# EAGLE library part 2MM-DUAL-14-HEADER (library DAC)
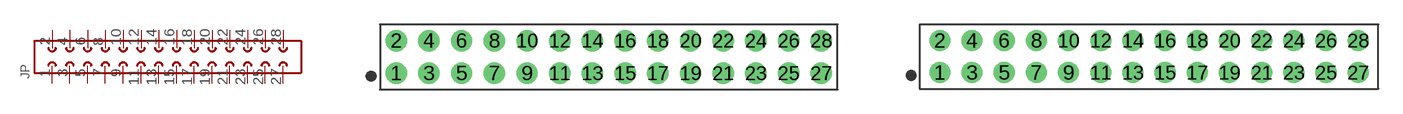
[diagram p10: symbol with the pads of 2MMDUALSTRAIGHTHEADER-14; footprints 2MMDUALSTRAIGHTHEADER-14, 2MMDUALSTRAIGHTRECPT-14]

Designator prefix JP

## 2MM-DUAL-14-HEADERMALE  [2MMDUALSTRAIGHTHEADER-14]
1  P$1
2  P$28
3  P$2
4  P$27
5  P$3
6  P$26
7  P$4
8  P$25
9  P$5
10  P$24
11  P$6
12  P$23
13  P$7
14  P$22
15  P$8
16  P$21
17  P$9
18  P$20
19  P$10
20  P$19
21  P$11
22  P$18
23  P$12
24  P$17
25  P$13
26  P$16
27  P$14
28  P$15

## 2MM-DUAL-14-HEADERFEMALE  [2MMDUALSTRAIGHTRECPT-14]
Pads as for 2MMDUALSTRAIGHTHEADER-14

## Footprint 2MMDUALSTRAIGHTHEADER-14 (pad centres in mm)
drill 0.8 round: 1 -13,-1; 2 -13,1; 3 -11,-1; 4 -11,1; 5 -9,-1; 6 -9,1; 7 -7,-1; 8 -7,1; 9 -5,-1; 10 -5,1; 11 -3,-1; 12 -3,1; 13 -1,-1; 14 -1,1; 15 1,-1; 16 1,1; 17 3,-1; 18 3,1; 19 5,-1; 20 5,1; 21 7,-1; 22 7,1; 23 9,-1; 24 9,1; 25 11,-1; 26 11,1; 27 13,-1; 28 13,1

## Footprint 2MMDUALSTRAIGHTRECPT-14 (pad centres in mm)
drill 0.8 round: 1 -13,-1; 2 -13,1; 3 -11,-1; 4 -11,1; 5 -9,-1; 6 -9,1; 7 -7,-1; 8 -7,1; 9 -5,-1; 10 -5,1; 11 -3,-1; 12 -3,1; 13 -1,-1; 14 -1,1; 15 1,-1; 16 1,1; 17 3,-1; 18 3,1; 19 5,-1; 20 5,1; 21 7,-1; 22 7,1; 23 9,-1; 24 9,1; 25 11,-1; 26 11,1; 27 13,-1; 28 13,1